# Altium schematic symbol library LEDT1GRN.Schlib: 1 symbol
Pins are listed as number, name and electrical type; pins without a type are passive.

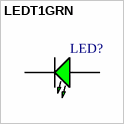
[diagram p0: symbol LEDT1GRN]

## LEDT1GRN
designator LED?  (value not drawn)
pins: 1 A, 2 K
1 alternate drawing of the same symbol